# Altium footprint library SparkFun-Connectors.PCBLIB: 344 footprints (part 11 of 22)
Each footprint in its own frame and in the unit in brackets; x right, y up, seen from the top. Pads: shape width x height; smd on the part's side, far side on the other; paste and mask are expansions set on the pad; w line width, h text height; cw(c..) or ccw(c..) is an arc to the next point about the centre after c.
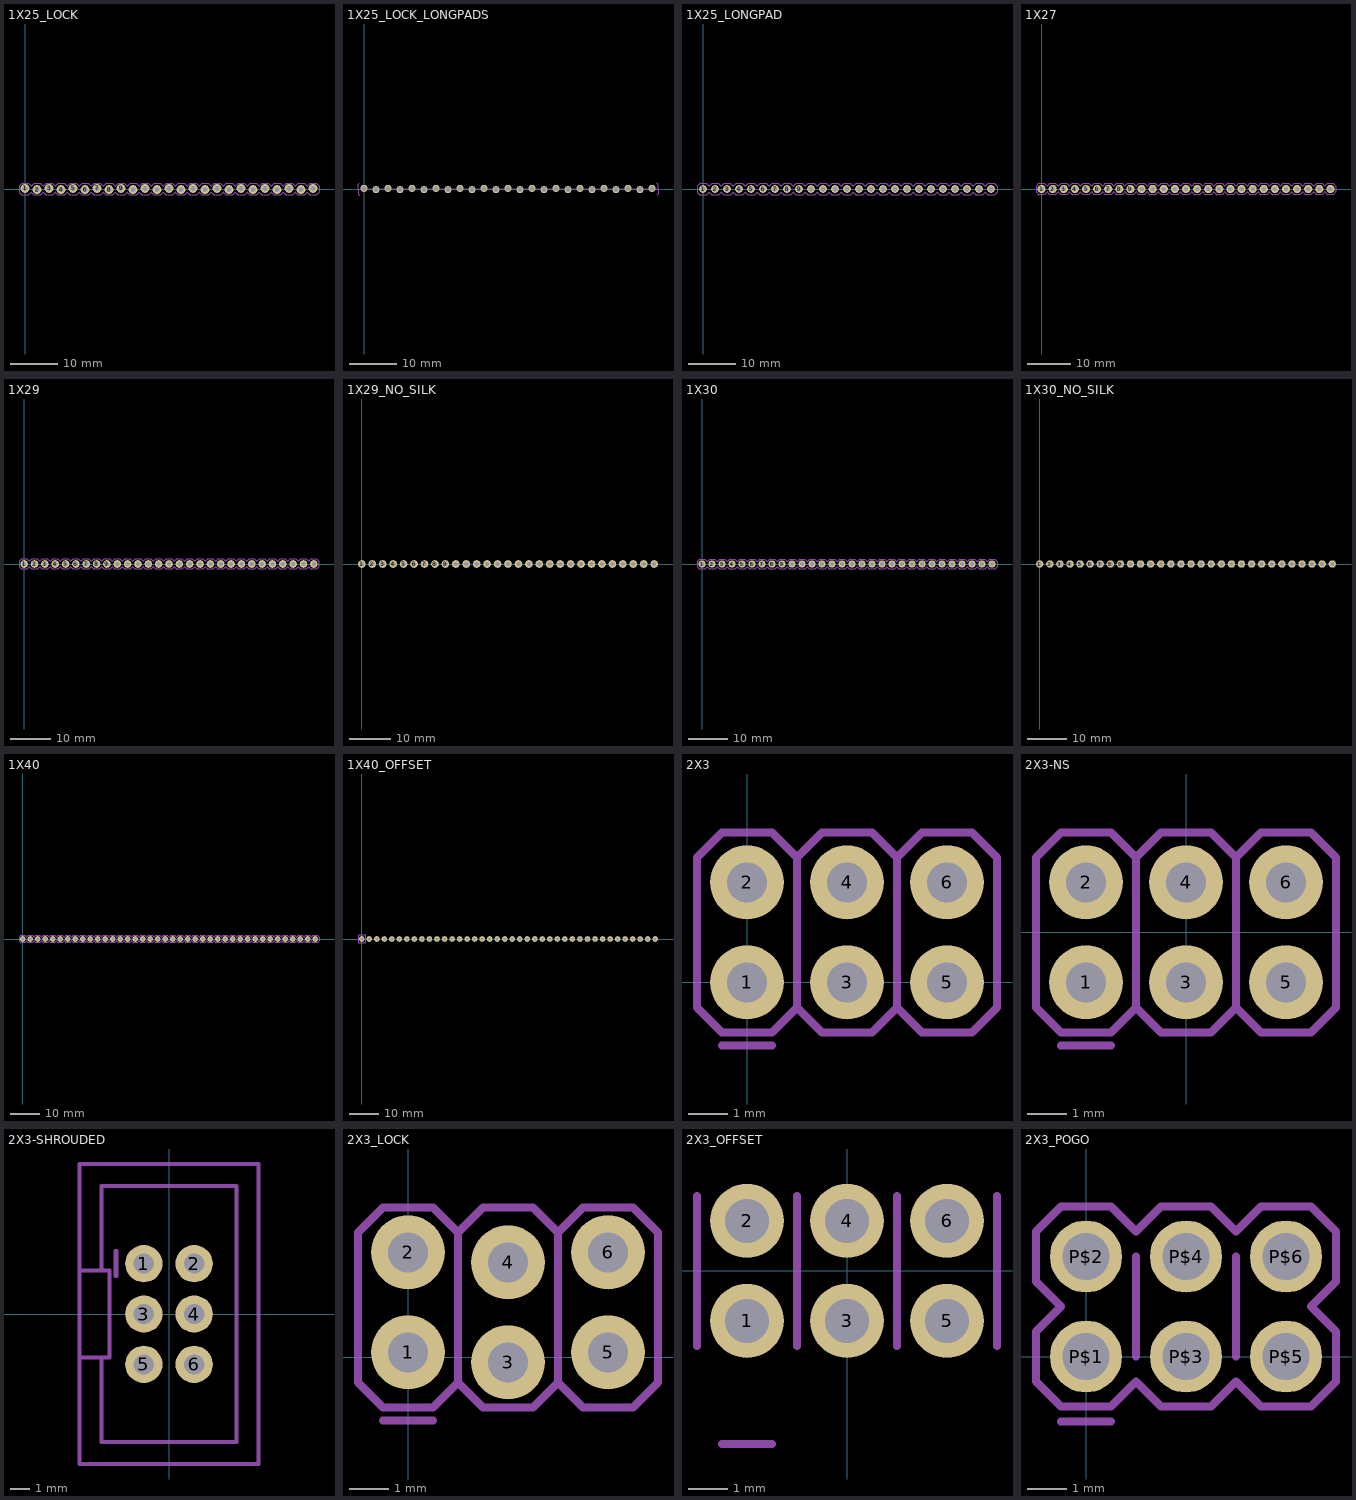
[diagram p10: the footprints below, top view; thin cyan lines are the x and y axes]

## 1X25_LOCK [mil]
pads (25):
  round 74 / inner round 60 / far side round 74 hole 40: 1(0,5) 2(100,-5) 3(200,5) 4(300,-5) 5(400,5) 6(500,-5) 7(600,5) 8(700,-5) 9(800,5) 10(900,-5) 11(1000,5) 12(1100,-5) 13(1200,5) 14(1300,-5) 15(1400,5) 16(1500,-5) 17(1600,5) 18(1700,-5) 19(1800,5) 20(1900,-5) 21(2000,5) 22(2100,-5) 23(2200,5) 24(2300,-5) 25(2400,5)
Mechanical 8:
  region: 590,-10 590,10 610,10 610,-10
  region: 490,-10 490,10 510,10 510,-10
  region: 390,-10 390,10 410,10 410,-10
  region: 290,-10 290,10 310,10 310,-10
  region: 190,-10 190,10 210,10 210,-10
  region: 90,-10 90,10 110,10 110,-10
  region: -10,-10 -10,10 10,10 10,-10
  region: 1290,-10 1290,10 1310,10 1310,-10
  region: 1190,-10 1190,10 1210,10 1210,-10
  region: 1090,-10 1090,10 1110,10 1110,-10
  region: 990,-10 990,10 1010,10 1010,-10
  region: 890,-10 890,10 910,10 910,-10
  region: 790,-10 790,10 810,10 810,-10
  region: 690,-10 690,10 710,10 710,-10
  region: 1390,-10 1390,10 1410,10 1410,-10
  region: 1490,-10 1490,10 1510,10 1510,-10
  region: 1590,-10 1590,10 1610,10 1610,-10
  region: 1690,-10 1690,10 1710,10 1710,-10
  region: 1790,-10 1790,10 1810,10 1810,-10
  region: 1890,-10 1890,10 1910,10 1910,-10
  region: 1990,-10 1990,10 2010,10 2010,-10
  region: 2090,-10 2090,10 2110,10 2110,-10
  region: 2190,-10 2190,10 2210,10 2210,-10
  region: 2290,-10 2290,10 2310,10 2310,-10
  region: 2390,-10 2390,10 2410,10 2410,-10
Mechanical 22:
  drawing of 154 lines, arcs and shapes, not listed

## 1X25_LOCK_LONGPADS [mil]
pads (25):
  round 60 hole 40: 1(0,5) 2(100,-5) 3(200,5) 4(300,-5) 5(400,5) 6(500,-5) 7(600,5) 8(700,-5) 9(800,5) 10(900,-5) 11(1000,5) 12(1100,-5) 13(1200,5) 14(1300,-5) 15(1400,5) 16(1500,-5) 17(1600,5) 18(1700,-5) 19(1800,5) 20(1900,-5) 21(2000,5) 22(2100,-5) 23(2200,5) 24(2300,-5) 25(2400,5)
Mechanical 8:
  region: -11.5,-11.5 -11.5,11.5 11.5,11.5 11.5,-11.5
  region: 88.5,-11.5 88.5,11.5 111.5,11.5 111.5,-11.5
  region: 188.5,-11.5 188.5,11.5 211.5,11.5 211.5,-11.5
  region: 311.5,-11.5 288.5,-11.5 288.5,11.5 311.5,11.5
  region: 388.5,-11.5 388.5,11.5 411.5,11.5 411.5,-11.5
  region: 488.5,-11.5 488.5,11.5 511.5,11.5 511.5,-11.5
  region: 588.5,-11.5 588.5,11.5 611.5,11.5 611.5,-11.5
  region: 688.5,-11.5 688.5,11.5 711.5,11.5 711.5,-11.5
  region: 788.5,-11.5 788.5,11.5 811.5,11.5 811.5,-11.5
  region: 911.5,-11.5 888.5,-11.5 888.5,11.5 911.5,11.5
  region: 988.5,-11.5 988.5,11.5 1011.5,11.5 1011.5,-11.5
  region: 1088.5,-11.5 1088.5,11.5 1111.5,11.5 1111.5,-11.5
  region: 1188.5,-11.5 1188.5,11.5 1211.5,11.5 1211.5,-11.5
  region: 1288.5,-11.5 1288.5,11.5 1311.5,11.5 1311.5,-11.5
  region: 1388.5,-11.5 1388.5,11.5 1411.5,11.5 1411.5,-11.5
  region: 1511.5,-11.5 1488.5,-11.5 1488.5,11.5 1511.5,11.5
  region: 1588.5,-11.5 1588.5,11.5 1611.5,11.5 1611.5,-11.5
  region: 1688.5,-11.5 1688.5,11.5 1711.5,11.5 1711.5,-11.5
  region: 1788.5,-11.5 1788.5,11.5 1811.5,11.5 1811.5,-11.5
  region: 1888.5,-11.5 1888.5,11.5 1911.5,11.5 1911.5,-11.5
  region: 1988.5,-11.5 1988.5,11.5 2011.5,11.5 2011.5,-11.5
  region: 2088.5,-11.5 2088.5,11.5 2111.5,11.5 2111.5,-11.5
  region: 2188.5,-11.5 2188.5,11.5 2211.5,11.5 2211.5,-11.5
  region: 2288.5,-11.5 2288.5,11.5 2311.5,11.5 2311.5,-11.5
  region: 2388.5,-11.5 2388.5,11.5 2411.5,11.5 2411.5,-11.5
Mechanical 22:
  lines w8: -40,0 -50,0 ; -39,-50 -50,-39 -50,0 ; -39,50 -50,39 -50,0 ; 40,0 60,0 ; 140,0 160,0 ; 240,0 260,0 ; 340,0 360,0 ; 440,0 460,0 ; 540,0 560,0 ; 640,0 660,0 ; 740,0 760,0 ; 840,0 860,0 ; 940,0 960,0 ; 1040,0 1060,0 ; 1140,0 1160,0 ; 1240,0 1260,0 ; 1340,0 1360,0 ; 1440,0 1460,0 ; 1540,0 1560,0 ; 1640,0 1660,0 ; 1740,0 1760,0 ; 1840,0 1860,0 ; 1940,0 1960,0 ; 2040,0 2060,0 ; 2140,0 2160,0 ; 2240,0 2260,0 ; 2340,0 2360,0 ; 2439,-50 2450,-39 2450,0 ; 2439,50 2450,39 2450,0 ; 2440,0 2450,0

## 1X25_LONGPAD [mil]
pads (25):
  round 66 / inner round 60 / far side round 66 hole 44: 1(0,0) 2(100,0) 3(200,0) 4(300,0) 5(400,0) 6(500,0) 7(600,0) 8(700,0) 9(800,0) 10(900,0) 11(1000,0) 12(1100,0) 13(1200,0) 14(1300,0) 15(1400,0) 16(1500,0) 17(1600,0) 18(1700,0) 19(1800,0) 20(1900,0) 21(2000,0) 22(2100,0) 23(2200,0) 24(2300,0) 25(2400,0)
Mechanical 8:
  region: 590,-10 590,10 610,10 610,-10
  region: 490,-10 490,10 510,10 510,-10
  region: 390,-10 390,10 410,10 410,-10
  region: 290,-10 290,10 310,10 310,-10
  region: 190,-10 190,10 210,10 210,-10
  region: 90,-10 90,10 110,10 110,-10
  region: -10,-10 -10,10 10,10 10,-10
  region: 1290,-10 1290,10 1310,10 1310,-10
  region: 1190,-10 1190,10 1210,10 1210,-10
  region: 1090,-10 1090,10 1110,10 1110,-10
  region: 990,-10 990,10 1010,10 1010,-10
  region: 890,-10 890,10 910,10 910,-10
  region: 790,-10 790,10 810,10 810,-10
  region: 690,-10 690,10 710,10 710,-10
  region: 1390,-10 1390,10 1410,10 1410,-10
  region: 1490,-10 1490,10 1510,10 1510,-10
  region: 1590,-10 1590,10 1610,10 1610,-10
  region: 1690,-10 1690,10 1710,10 1710,-10
  region: 1790,-10 1790,10 1810,10 1810,-10
  region: 1890,-10 1890,10 1910,10 1910,-10
  region: 1990,-10 1990,10 2010,10 2010,-10
  region: 2090,-10 2090,10 2110,10 2110,-10
  region: 2190,-10 2190,10 2210,10 2210,-10
  region: 2290,-10 2290,10 2310,10 2310,-10
  region: 2390,-10 2390,10 2410,10 2410,-10
Mechanical 22:
  drawing of 152 lines, arcs and shapes, not listed

## 1X27 [mil]
pads (27):
  round 74 / inner round 60 / far side round 74 hole 40: 1(0,0) 2(100,0) 3(200,0) 4(300,0) 5(400,0) 6(500,0) 7(600,0) 8(700,0) 9(800,0) 10(900,0) 11(1000,0) 12(1100,0) 13(1200,0) 14(1300,0) 15(1400,0) 16(1500,0) 17(1600,0) 18(1700,0) 19(1800,0) 20(1900,0) 21(2000,0) 22(2100,0) 23(2200,0) 24(2300,0) 25(2400,0) 26(2500,0) 27(2600,0)
Mechanical 8:
  region: 590,-10 590,10 610,10 610,-10
  region: 490,-10 490,10 510,10 510,-10
  region: 390,-10 390,10 410,10 410,-10
  region: 290,-10 290,10 310,10 310,-10
  region: 190,-10 190,10 210,10 210,-10
  region: 90,-10 90,10 110,10 110,-10
  region: -10,-10 -10,10 10,10 10,-10
  region: 1290,-10 1290,10 1310,10 1310,-10
  region: 1190,-10 1190,10 1210,10 1210,-10
  region: 1090,-10 1090,10 1110,10 1110,-10
  region: 990,-10 990,10 1010,10 1010,-10
  region: 890,-10 890,10 910,10 910,-10
  region: 790,-10 790,10 810,10 810,-10
  region: 690,-10 690,10 710,10 710,-10
  region: 1390,-10 1390,10 1410,10 1410,-10
  region: 1490,-10 1490,10 1510,10 1510,-10
  region: 1590,-10 1590,10 1610,10 1610,-10
  region: 1690,-10 1690,10 1710,10 1710,-10
  region: 1790,-10 1790,10 1810,10 1810,-10
  region: 1890,-10 1890,10 1910,10 1910,-10
  region: 1990,-10 1990,10 2010,10 2010,-10
  region: 2090,-10 2090,10 2110,10 2110,-10
  region: 2190,-10 2190,10 2210,10 2210,-10
  region: 2490,-10 2490,10 2510,10 2510,-10
  region: 2590,-10 2590,10 2610,10 2610,-10
  region: 2290,-10 2290,10 2310,10 2310,-10
  region: 2390,-10 2390,10 2410,10 2410,-10
Mechanical 22:
  drawing of 164 lines, arcs and shapes, not listed

## 1X29 [mil]
pads (29):
  round 74 / inner round 60 / far side round 74 hole 40: 1(0,0) 2(100,0) 3(200,0) 4(300,0) 5(400,0) 6(500,0) 7(600,0) 8(700,0) 9(800,0) 10(900,0) 11(1000,0) 12(1100,0) 13(1200,0) 14(1300,0) 15(1400,0) 16(1500,0) 17(1600,0) 18(1700,0) 19(1800,0) 20(1900,0) 21(2000,0) 22(2100,0) 23(2200,0) 24(2300,0) 25(2400,0) 26(2500,0) 27(2600,0) 28(2700,0) 29(2800,0)
Mechanical 8:
  region: 590,-10 590,10 610,10 610,-10
  region: 490,-10 490,10 510,10 510,-10
  region: 390,-10 390,10 410,10 410,-10
  region: 290,-10 290,10 310,10 310,-10
  region: 190,-10 190,10 210,10 210,-10
  region: 90,-10 90,10 110,10 110,-10
  region: -10,-10 -10,10 10,10 10,-10
  region: 1290,-10 1290,10 1310,10 1310,-10
  region: 1190,-10 1190,10 1210,10 1210,-10
  region: 1090,-10 1090,10 1110,10 1110,-10
  region: 990,-10 990,10 1010,10 1010,-10
  region: 890,-10 890,10 910,10 910,-10
  region: 790,-10 790,10 810,10 810,-10
  region: 690,-10 690,10 710,10 710,-10
  region: 1390,-10 1390,10 1410,10 1410,-10
  region: 1490,-10 1490,10 1510,10 1510,-10
  region: 1590,-10 1590,10 1610,10 1610,-10
  region: 1690,-10 1690,10 1710,10 1710,-10
  region: 1790,-10 1790,10 1810,10 1810,-10
  region: 1890,-10 1890,10 1910,10 1910,-10
  region: 1990,-10 1990,10 2010,10 2010,-10
  region: 2090,-10 2090,10 2110,10 2110,-10
  region: 2190,-10 2190,10 2210,10 2210,-10
  region: 2490,-10 2490,10 2510,10 2510,-10
  region: 2590,-10 2590,10 2610,10 2610,-10
  region: 2290,-10 2290,10 2310,10 2310,-10
  region: 2390,-10 2390,10 2410,10 2410,-10
  region: 2690,-10 2690,10 2710,10 2710,-10
  region: 2790,-10 2790,10 2810,10 2810,-10
Mechanical 22:
  drawing of 176 lines, arcs and shapes, not listed

## 1X29_NO_SILK [mil]
pads (29):
  round 74 / inner round 60 / far side round 74 hole 40: 1(0,0) 2(100,0) 3(200,0) 4(300,0) 5(400,0) 6(500,0) 7(600,0) 8(700,0) 9(800,0) 10(900,0) 11(1000,0) 12(1100,0) 13(1200,0) 14(1300,0) 15(1400,0) 16(1500,0) 17(1600,0) 18(1700,0) 19(1800,0) 20(1900,0) 21(2000,0) 22(2100,0) 23(2200,0) 24(2300,0) 25(2400,0) 26(2500,0) 27(2600,0) 28(2700,0) 29(2800,0)
Mechanical 8:
  region: 590,-10 590,10 610,10 610,-10
  region: 490,-10 490,10 510,10 510,-10
  region: 390,-10 390,10 410,10 410,-10
  region: 290,-10 290,10 310,10 310,-10
  region: 190,-10 190,10 210,10 210,-10
  region: 90,-10 90,10 110,10 110,-10
  region: -10,-10 -10,10 10,10 10,-10
  region: 1290,-10 1290,10 1310,10 1310,-10
  region: 1190,-10 1190,10 1210,10 1210,-10
  region: 1090,-10 1090,10 1110,10 1110,-10
  region: 990,-10 990,10 1010,10 1010,-10
  region: 890,-10 890,10 910,10 910,-10
  region: 790,-10 790,10 810,10 810,-10
  region: 690,-10 690,10 710,10 710,-10
  region: 1390,-10 1390,10 1410,10 1410,-10
  region: 1490,-10 1490,10 1510,10 1510,-10
  region: 1590,-10 1590,10 1610,10 1610,-10
  region: 1690,-10 1690,10 1710,10 1710,-10
  region: 1790,-10 1790,10 1810,10 1810,-10
  region: 1890,-10 1890,10 1910,10 1910,-10
  region: 1990,-10 1990,10 2010,10 2010,-10
  region: 2090,-10 2090,10 2110,10 2110,-10
  region: 2190,-10 2190,10 2210,10 2210,-10
  region: 2490,-10 2490,10 2510,10 2510,-10
  region: 2590,-10 2590,10 2610,10 2610,-10
  region: 2290,-10 2290,10 2310,10 2310,-10
  region: 2390,-10 2390,10 2410,10 2410,-10
  region: 2690,-10 2690,10 2710,10 2710,-10
  region: 2790,-10 2790,10 2810,10 2810,-10

## 1X30 [mil]
pads (30):
  round 74 / inner round 60 / far side round 74 hole 40: 1(0,0) 2(100,0) 3(200,0) 4(300,0) 5(400,0) 6(500,0) 7(600,0) 8(700,0) 9(800,0) 10(900,0) 11(1000,0) 12(1100,0) 13(1200,0) 14(1300,0) 15(1400,0) 16(1500,0) 17(1600,0) 18(1700,0) 19(1800,0) 20(1900,0) 21(2000,0) 22(2100,0) 23(2200,0) 24(2300,0) 25(2400,0) 26(2500,0) 27(2600,0) 28(2700,0) 29(2800,0) 30(2900,0)
Mechanical 8:
  region: 590,-10 590,10 610,10 610,-10
  region: 490,-10 490,10 510,10 510,-10
  region: 390,-10 390,10 410,10 410,-10
  region: 290,-10 290,10 310,10 310,-10
  region: 190,-10 190,10 210,10 210,-10
  region: 90,-10 90,10 110,10 110,-10
  region: -10,-10 -10,10 10,10 10,-10
  region: 1290,-10 1290,10 1310,10 1310,-10
  region: 1190,-10 1190,10 1210,10 1210,-10
  region: 1090,-10 1090,10 1110,10 1110,-10
  region: 990,-10 990,10 1010,10 1010,-10
  region: 890,-10 890,10 910,10 910,-10
  region: 790,-10 790,10 810,10 810,-10
  region: 690,-10 690,10 710,10 710,-10
  region: 1390,-10 1390,10 1410,10 1410,-10
  region: 1490,-10 1490,10 1510,10 1510,-10
  region: 1590,-10 1590,10 1610,10 1610,-10
  region: 1690,-10 1690,10 1710,10 1710,-10
  region: 1790,-10 1790,10 1810,10 1810,-10
  region: 1890,-10 1890,10 1910,10 1910,-10
  region: 1990,-10 1990,10 2010,10 2010,-10
  region: 2090,-10 2090,10 2110,10 2110,-10
  region: 2190,-10 2190,10 2210,10 2210,-10
  region: 2490,-10 2490,10 2510,10 2510,-10
  region: 2590,-10 2590,10 2610,10 2610,-10
  region: 2290,-10 2290,10 2310,10 2310,-10
  region: 2390,-10 2390,10 2410,10 2410,-10
  region: 2690,-10 2690,10 2710,10 2710,-10
  region: 2790,-10 2790,10 2810,10 2810,-10
  region: 2890,-10 2890,10 2910,10 2910,-10
Mechanical 22:
  drawing of 182 lines, arcs and shapes, not listed

## 1X30_NO_SILK [mil]
pads (30):
  round 74 / inner round 60 / far side round 74 hole 40: 1(0,0) 2(100,0) 3(200,0) 4(300,0) 5(400,0) 6(500,0) 7(600,0) 8(700,0) 9(800,0) 10(900,0) 11(1000,0) 12(1100,0) 13(1200,0) 14(1300,0) 15(1400,0) 16(1500,0) 17(1600,0) 18(1700,0) 19(1800,0) 20(1900,0) 21(2000,0) 22(2100,0) 23(2200,0) 24(2300,0) 25(2400,0) 26(2500,0) 27(2600,0) 28(2700,0) 29(2800,0) 30(2900,0)
Mechanical 8:
  region: 590,-10 590,10 610,10 610,-10
  region: 490,-10 490,10 510,10 510,-10
  region: 390,-10 390,10 410,10 410,-10
  region: 290,-10 290,10 310,10 310,-10
  region: 190,-10 190,10 210,10 210,-10
  region: 90,-10 90,10 110,10 110,-10
  region: -10,-10 -10,10 10,10 10,-10
  region: 1290,-10 1290,10 1310,10 1310,-10
  region: 1190,-10 1190,10 1210,10 1210,-10
  region: 1090,-10 1090,10 1110,10 1110,-10
  region: 990,-10 990,10 1010,10 1010,-10
  region: 890,-10 890,10 910,10 910,-10
  region: 790,-10 790,10 810,10 810,-10
  region: 690,-10 690,10 710,10 710,-10
  region: 1390,-10 1390,10 1410,10 1410,-10
  region: 1490,-10 1490,10 1510,10 1510,-10
  region: 1590,-10 1590,10 1610,10 1610,-10
  region: 1690,-10 1690,10 1710,10 1710,-10
  region: 1790,-10 1790,10 1810,10 1810,-10
  region: 1890,-10 1890,10 1910,10 1910,-10
  region: 1990,-10 1990,10 2010,10 2010,-10
  region: 2090,-10 2090,10 2110,10 2110,-10
  region: 2190,-10 2190,10 2210,10 2210,-10
  region: 2490,-10 2490,10 2510,10 2510,-10
  region: 2590,-10 2590,10 2610,10 2610,-10
  region: 2290,-10 2290,10 2310,10 2310,-10
  region: 2390,-10 2390,10 2410,10 2410,-10
  region: 2690,-10 2690,10 2710,10 2710,-10
  region: 2790,-10 2790,10 2810,10 2810,-10
  region: 2890,-10 2890,10 2910,10 2910,-10

## 1X40 [mil]
pads (40):
  round 74 / inner round 60 / far side round 74 hole 40: 1(0,0) 2(100,0) 3(200,0) 4(300,0) 5(400,0) 6(500,0) 7(600,0) 8(700,0) 9(800,0) 10(900,0) 11(1000,0) 12(1100,0) 13(1200,0) 14(1300,0) 15(1400,0) 16(1500,0) 17(1600,0) 18(1700,0) 19(1800,0) 20(1900,0) 21(2000,0) 22(2100,0) 23(2200,0) 24(2300,0) 25(2400,0) 26(2500,0) 27(2600,0) 28(2700,0) 29(2800,0) 30(2900,0) 31(3000,0) 32(3100,0) 33(3200,0) 34(3300,0) 35(3400,0) 36(3500,0) 37(3600,0) 38(3700,0) 39(3800,0) 40(3900,0)
Mechanical 8:
  drawing of 40 lines, arcs and shapes, not listed
Mechanical 22:
  drawing of 242 lines, arcs and shapes, not listed

## 1X40_OFFSET [mil]
pads (40):
  round 74 / inner round 60 / far side round 74 hole 40: 1(0,0) 2(100,0) 3(200,0) 4(300,0) 5(400,0) 6(500,0) 7(600,0) 8(700,0) 9(800,0) 10(900,0) 11(1000,0) 12(1100,0) 13(1200,0) 14(1300,0) 15(1400,0) 16(1500,0) 17(1600,0) 18(1700,0) 19(1800,0) 20(1900,0) 21(2000,0) 22(2100,0) 23(2200,0) 24(2300,0) 25(2400,0) 26(2500,0) 27(2600,0) 28(2700,0) 29(2800,0) 30(2900,0) 31(3000,0) 32(3100,0) 33(3200,0) 34(3300,0) 35(3400,0) 36(3500,0) 37(3600,0) 38(3700,0) 39(3800,0) 40(3900,0)
Mechanical 8:
  drawing of 40 lines, arcs and shapes, not listed
Mech35:
  lines w5: -50,-50 -50,50 50,50 50,-50 -50,-50

## 2X3 [mil]
pads (6):
  round 74 / inner round 60 / far side round 74 hole 40: 1(0,0) 2(0,100) 3(100,0) 4(100,100) 5(200,0) 6(200,100)
Mechanical 8:
  region: -10,-10 -10,10 10,10 10,-10
  region: -10,90 -10,110 10,110 10,90
  region: 90,90 90,110 110,110 110,90
  region: 90,-10 90,10 110,10 110,-10
  region: 190,90 190,110 210,110 210,90
  region: 190,-10 190,10 210,10 210,-10
Mechanical 22:
  lines w8: -25,-63.19 25,-63.19 ; 50,-25 25,-50 -25,-50 -50,-25 -50,125 -25,150 25,150 50,125 ; 50,-25 75,-50 125,-50 150,-25 ; 50,-25 50,125 ; 50,125 75,150 125,150 150,125 ; 150,-25 175,-50 225,-50 250,-25 250,125 225,150 175,150 150,125 ; 150,-25 150,125
Mechanical 23:
  lines w8: -25,-63.19 25,-63.19

## 2X3-NS [mil]
pads (6):
  round 74 / inner round 60 / far side round 74 hole 40: 1(-100,-50) 2(-100,50) 3(0,-50) 4(0,50) 5(100,-50) 6(100,50)
Mechanical 8:
  region: -110,-60 -110,-40 -90,-40 -90,-60
  region: -110,40 -110,60 -90,60 -90,40
  region: -10,40 -10,60 10,60 10,40
  region: -10,-60 -10,-40 10,-40 10,-60
  region: 90,40 90,60 110,60 110,40
  region: 90,-60 90,-40 110,-40 110,-60
  lines w8: -125,-113.19 -75,-113.19 ; -50,-75 -75,-100 -125,-100 -150,-75 -150,75 -125,100 -75,100 -50,75 ; -50,-75 -25,-100 25,-100 50,-75 ; -50,-75 -50,75 ; -50,75 -25,100 25,100 50,75 ; 50,-75 75,-100 125,-100 150,-75 150,75 125,100 75,100 50,75 ; 50,-75 50,75

## 2X3-SHROUDED [mil]
pads (6):
  round 74 / inner round 60 / far side round 74 hole 40: 1(-50,100) 2(50,100) 3(-50,0) 4(50,0) 5(-50,-100) 6(50,-100)
Mechanical 8:
  region: 40,90 40,110 60,110 60,90
  region: -60,90 -60,110 -40,110 -40,90
  region: 40,-10 40,10 60,10 60,-10
  region: -60,-10 -60,10 -40,10 -40,-10
  region: 40,-110 40,-90 60,-90 60,-110
  region: -60,-110 -60,-90 -40,-90 -40,-110
  region: -60,-110 -60,-90 -40,-90 -40,-110
  region: 40,-110 40,-90 60,-90 60,-110
  lines w8: -133.86,-86.61 -133.86,-254.33 133.86,-254.33 133.86,254.33 -133.86,254.33 -133.86,86.61
Mechanical 22:
  lines w8: -104.25,75 -104.25,125 ; 173.23,297.64 -177.17,297.64 -177.17,86.61 ; 177.17,297.64 177.17,-297.64 -177.17,-297.64 -177.17,-86.61 ; -177.17,-86.61 -177.17,86.61 ; -177.17,-86.61 -118.11,-86.61 -118.11,86.61 -177.17,86.61
Mechanical 23:
  lines w8: -105.75,75 -105.75,125

## 2X3_LOCK [mil]
pads (6):
  round 74 / inner round 60 / far side round 74 hole 40: 1(0,5) 2(0,105) 3(100,-5) 4(100,95) 5(200,5) 6(200,105)
Mechanical 8:
  region: -10,-10 -10,10 10,10 10,-10
  region: -10,90 -10,110 10,110 10,90
  region: 90,90 90,110 110,110 110,90
  region: 90,-10 90,10 110,10 110,-10
  region: 190,90 190,110 210,110 210,90
  region: 190,-10 190,10 210,10 210,-10
Mechanical 22:
  lines w8: -25,-63.19 25,-63.19 ; 50,-25 25,-50 -25,-50 -50,-25 -50,125 -25,150 25,150 50,125 ; 50,-25 75,-50 125,-50 150,-25 ; 50,-25 50,125 ; 50,125 75,150 125,150 150,125 ; 150,-25 175,-50 225,-50 250,-25 250,125 225,150 175,150 150,125 ; 150,-25 150,125
Mechanical 23:
  lines w8: -25,-63.19 25,-63.19

## 2X3_OFFSET [mil]
pads (6):
  round 74 / inner round 60 / far side round 74 hole 44: 1(-100,-50) 2(-100,50) 3(0,-50) 4(0,50) 5(100,-50) 6(100,50)
Mechanical 8:
  region: -110,-60 -110,-40 -90,-40 -90,-60
  region: -110,40 -110,60 -90,60 -90,40
  region: -10,40 -10,60 10,60 10,40
  region: -10,-60 -10,-40 10,-40 10,-60
  region: 90,40 90,60 110,60 110,40
  region: 90,-60 90,-40 110,-40 110,-60
Mechanical 22:
  lines w8: -150,-75 -150,75 ; -125,-173.19 -75,-173.19 ; -50,-75 -50,75 ; 50,-75 50,75 ; 150,-75 150,75
Mechanical 23:
  lines w8: -125,-173.19 -75,-173.19

## 2X3_POGO [mil]
pads (6):
  round 72 / inner round 60 / far side round 72 hole 47.24: P$1(0,0) P$2(0,100) P$3(100,0) P$4(100,100) P$5(200,0) P$6(200,100)
Mechanical 22:
  lines w8: -25,-65 25,-65 ; 50,0 50,100 ; 150,0 150,100 ; -50,-25 -25,-50 ; -50,-25 -50,25 -25,50 -50,75 -50,125 ; -50,-25 -25,-50 ; -50,125 -25,150 ; -50,125 -25,150 ; -25,-50 25,-50 50,-25 75,-50 125,-50 150,-25 175,-50 225,-50 250,-25 250,25 225,50 250,75 250,125 225,150 175,150 150,125 125,150 75,150 50,125 25,150 -25,150
Mechanical 23:
  lines w8: -25,-65 25,-65